# Altium footprint library robotShield.PcbLib: 19 footprints (part 2 of 2)
Each footprint in its own frame and in the unit in brackets; x right, y up, seen from the top. Pads: shape width x height; smd on the part's side, far side on the other; paste and mask are expansions set on the pad; w line width, h text height; cw(c..) or ccw(c..) is an arc to the next point about the centre after c.
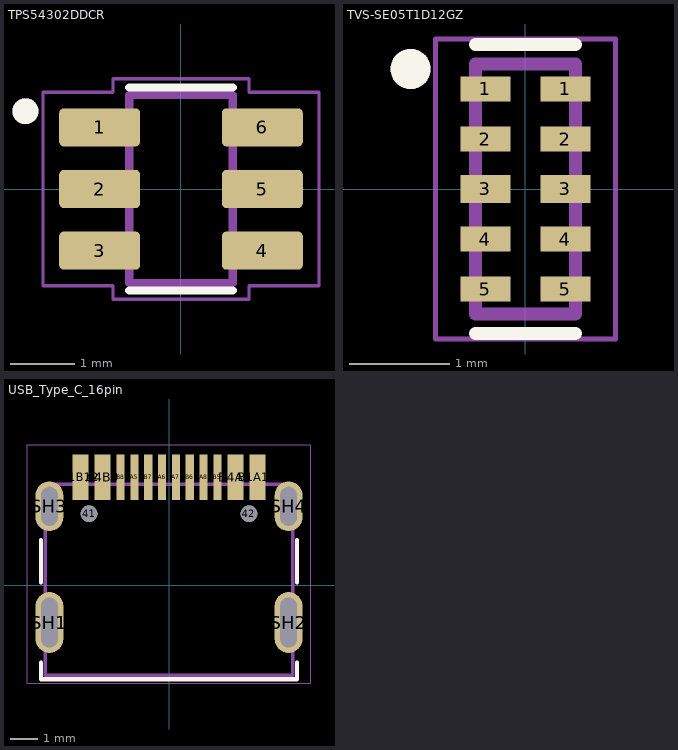
[diagram p1: the footprints below, top view; thin cyan lines are the x and y axes]

## TPS54302DDCR [mm] "SOT95P280X110-6N"
height 1.1
pads (6):
  rrect25% 1.25x0.59 smd: 1(-1.255,0.95) 2(-1.255,0) 3(-1.255,-0.95) 4(1.255,-0.95) 5(1.255,0) 6(1.255,0.95)
Top Overlay:
  circle w0.2: c-2.4,1.2 r0.1
  lines w0.127: -0.8,-1.565 0.8,-1.565 ; -0.8,1.565 0.8,1.565
Mechanical 13:
  circle w0.2: c-2.4,1.2 r0.1
  lines w0.127: -0.8,-1.45 -0.8,1.45 0.8,1.45 0.8,-1.45 -0.8,-1.45
Mechanical 15:
  lines w0.05: -2.13,-1.495 -2.13,1.495 -1.05,1.495 -1.05,1.7 1.05,1.7 1.05,1.495 2.13,1.495 2.13,-1.495 1.05,-1.495 1.05,-1.7 -1.05,-1.7 -1.05,-1.495 -2.13,-1.495
3D body "step_temp.STEP": height 1.1, standoff 0, extent -1.4,-1.45 1.4,1.45

## TVS-SE05T1D12GZ [mm] "DFN2510"
pads (10):
  rect 0.5x0.25 smd: 1(-0.4,1) 1(0.4,1) 2(-0.4,0.5) 2(0.4,0.5) 4(-0.4,-0.5) 4(0.4,-0.5) 5(-0.4,-1) 5(0.4,-1)
  rect 0.5x0.279 smd: 3(-0.4,0) 3(0.4,0)
Top Overlay:
  circle w0.2: c-1.15,1.2 r0.1
  lines w0.127: -0.5,-1.445 0.5,-1.445 ; -0.5,1.445 0.5,1.445
Mechanical 13:
  circle w0.2: c-1.15,1.2 r0.1
  lines w0.127: -0.5,-1.25 0.5,-1.25 0.5,1.25 -0.5,1.25 -0.5,-1.25
Mechanical 15:
  lines w0.05: -0.9,-1.5 0.9,-1.5 0.9,1.5 -0.9,1.5 -0.9,-1.5
3D body "ESD8104MUTAG--3DModel-STEP-1.STEP": height 0.55, standoff 0, extent -0.5,-1.25 0.5,1.25

## USB_Type_C_16pin [mm] "USB Type C - Connector, Top-mount SMT, 16pos"
height 3.16
pads (18):
  round 0.6 hole 0.6: 41(-2.89,2.58) 42(2.89,2.58)
  rect 0.59x1.65 smd mask+0.064: A1B12(-3.2,3.9) A4B9(-2.4,3.9) B1A12(3.2,3.9) B4A9(2.4,3.9)
  rect 0.298x1.65 smd mask+0.064: A5(-1.25,3.9) A6(-0.25,3.9) A7(0.25,3.9) A8(1.25,3.9) B5(1.75,3.9) B6(0.75,3.9) B7(-0.75,3.9) B8(-1.75,3.9)
  oval 1x2.2 hole 0.6 slot 1.8 at 90 deg mask+0.064: SH1(-4.32,-1.35) SH2(4.32,-1.35)
  oval 1x1.8 hole 0.6 slot 1.4 at 90 deg mask+0.064: SH3(-4.32,2.85) SH4(4.32,2.85)
Top Overlay:
  lines w0.15: -4.62,-2.8 -4.62,-3.4 4.62,-3.4 4.62,-2.8 ; -4.62,0.1 -4.62,1.63 ; 4.62,0.1 4.62,1.63
Mechanical 13:
  lines w0.13: -4.47,-3.25 4.47,-3.25 4.47,3.65 -4.47,3.65 -4.47,-3.25
Mechanical 15:
  lines w0.01: -5.12,-3.55 -5.12,5.08 5.12,5.08 5.12,-3.55 -5.12,-3.55
3D body "217179-0001--3DModel-STEP-269445.STEP": height 3.24, standoff -0.52, extent -4.47,-3.25 4.47,3.5